# Altium footprint library Shelestov_Connectors.PcbLib: 27 footprints (part 1 of 2)
Each footprint in its own frame and in the unit in brackets; x right, y up, seen from the top. Pads: shape width x height; smd on the part's side, far side on the other; paste and mask are expansions set on the pad; w line width, h text height; cw(c..) or ccw(c..) is an arc to the next point about the centre after c.
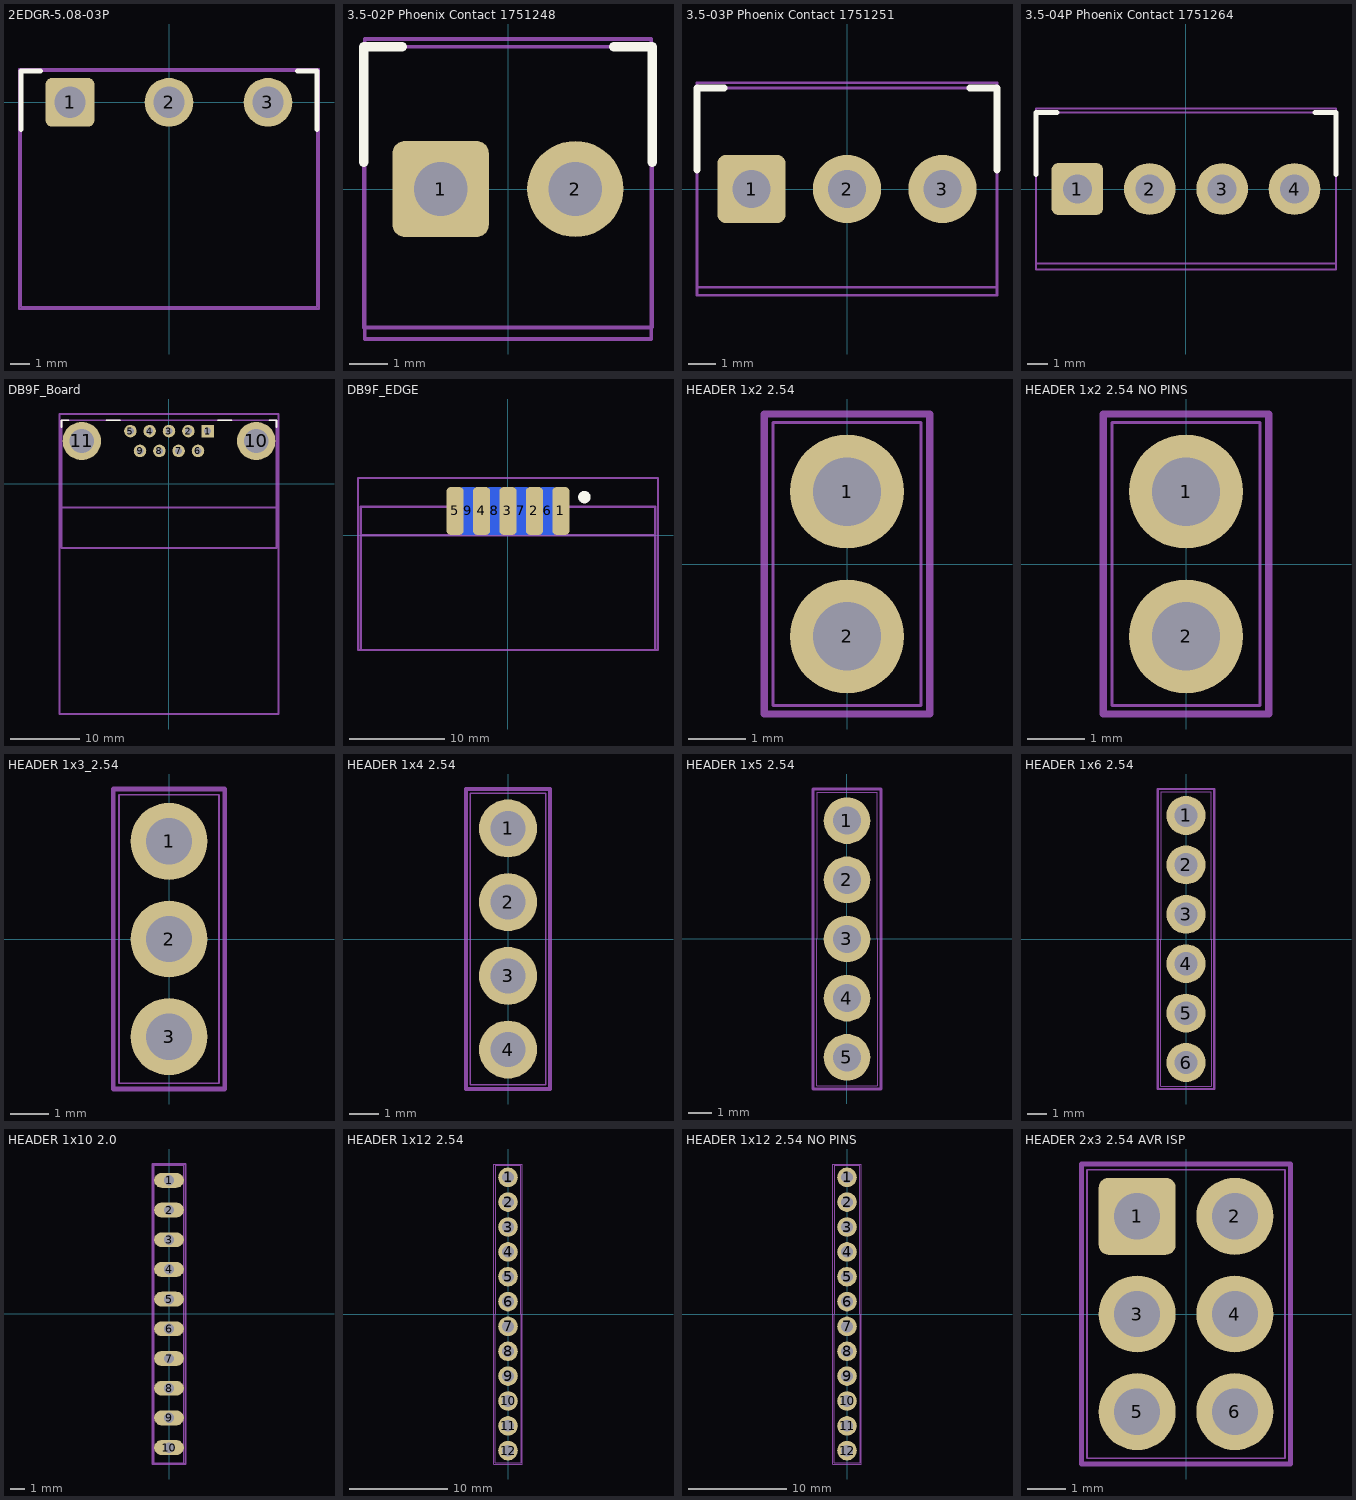
[diagram p0: the footprints below, top view; thin cyan lines are the x and y axes]

## 2EDGR-5.08-03P [mm]
height 8.3
pads (3):
  rrect25% 2.5x2.5 hole 1.6: 1(-5.08,0)
  round 2.5 hole 1.6: 2(0,0) 3(5.08,0)
Top Overlay:
  lines w0.254: -7.6,-1.4 -7.6,1.6 -6.6,1.6 ; 6.6,1.6 7.6,1.6 7.6,-1.4
Top Assembly:
  lines w0.1: -7.6,-10.5 -7.6,1.6 7.6,1.6 ; -7.6,-10.5 7.6,-10.5 ; 7.6,-10.5 7.6,1.6
  text ".Designator" at -6.75,-5.178 h3
Top Courtyard:
  lines w0.1: -7.7,-10.6 -7.7,1.7 7.7,1.7 7.7,-10.6 -7.7,-10.6
3D body "2EDGR-5_08-03P.step": height 8.3, standoff -3.9, extent -7.62,-10.5 7.62,1.6

## 3.5-02P Phoenix Contact 1751248 [mm]
height 8.5
pads (2):
  rrect25% 2.5x2.5 hole 1.4: 1(-1.75,0)
  round 2.5 hole 1.4: 2(1.75,0)
Top Overlay:
  lines w0.254: -3.75,0.7 -3.75,3.7 -2.75,3.7 ; 2.75,3.7 3.75,3.7 3.75,0.7
Top Assembly:
  lines w0.1: -3.75,-3.6 -3.75,3.7 3.74,3.7 3.74,-3.595 3.735,-3.6 -3.75,-3.6
  text ".Designator" at -4.5,2.048 h2
Top Courtyard:
  lines w0.1: -3.725,-3.9 -3.725,3.9 3.725,3.9 3.725,-3.9 -3.725,-3.9
3D body "70054346.stp": height 8.5, standoff -3.5, extent -3.75,-3.6 3.75,3.7

## 3.5-03P Phoenix Contact 1751251 [mm]
height 8.5
pads (3):
  rrect25% 2.5x2.5 hole 1.4: 1(-3.5,0)
  round 2.5 hole 1.4: 2(0,0) 3(3.5,0)
Top Overlay:
  lines w0.254: -5.5,0.7 -5.5,3.7 -4.5,3.7 ; 4.5,3.7 5.5,3.7 5.5,0.7
Top Assembly:
  lines w0.1: -5.5,-3.6 -5.5,3.7 5.5,3.7 5.5,-3.6 -5.5,-3.6
  text ".Designator" at -4.5,2.048 h2
Top Courtyard:
  lines w0.1: -5.5,-3.9 -5.5,3.9 5.5,3.9 5.5,-3.9 -5.5,-3.9
3D body "70054347.stp": height 8.6, standoff -3.4, extent -5.5,-3.6 5.5,3.7

## 3.5-04P Phoenix Contact 1751264 [mm]
height 8.5
pads (4):
  rrect25% 2.5x2.5 hole 1.4: 1(-5.25,0)
  round 2.5 hole 1.4: 2(-1.75,0) 3(1.75,0) 4(5.25,0)
Top Overlay:
  lines w0.254: -7.25,0.7 -7.25,3.7 -6.25,3.7 ; 6.25,3.7 7.25,3.7 7.25,0.7
Top Assembly:
  lines w0.1: 7.254,-3.643 7.254,3.657 ; 7.254,-3.6 -7.25,-3.6 -7.25,3.7 7.254,3.7
  text ".Designator" at -4.5,2.048 h2
Top Courtyard:
  lines w0.1: -7.25,-3.9 -7.25,3.9 7.25,3.9 7.25,-3.9 -7.25,-3.9
3D body "70054348.stp": height 8.6, standoff -3.4, extent -7.25,-3.6 7.25,3.7

## DB9F_Board [mm]
pads (11):
  rect 1.8x1.8 hole 1: 1(5.54,7.55)
  round 1.8 hole 1: 2(2.77,7.55) 3(0,7.55) 4(-2.77,7.55) 5(-5.54,7.55) 6(4.155,4.71) 7(1.385,4.71) 8(-1.385,4.71) 9(-4.155,4.71)
  round 5.5 hole 3.5: 10(12.5,6.13) 11(-12.5,6.13)
Top Overlay:
  lines w0.254: -15.4,8.1 -15.4,9.1 -14.4,9.1 ; -9,9.1 -7,9.1 ; 7,9.1 9,9.1 ; 14.4,9.1 15.4,9.1 15.4,8.1
Top Assembly:
  lines w0.254: -15.4,-3.39 15.4,-3.39 ; -15.4,-9.2 -15.4,9.1 15.4,9.1 15.4,-9.2 -15.4,-9.2
  text ".Designator" at -13.513,-1.358 h6
Top Courtyard:
  lines w0.254: -15.7,-33 -15.7,10 15.7,10 15.7,-33 -15.7,-33
3D body "DB9F-Board-Usa.step": height 12.77, standoff -4.1, extent -15.405,-9.2 15.405,9.1

## DB9F_EDGE [mm]
pads (9):
  rrect50% 1.8x5 smd: 1(5.54,2.55) 2(2.77,2.55) 3(0,2.55) 4(-2.77,2.55) 5(-5.54,2.55)
  rrect50% 1.8x5 smd far side: 6(4.155,2.55) 7(1.385,2.55) 8(-1.385,2.55) 9(-4.155,2.55)
Top Overlay:
  circle w0.7: c8,4 r0.3
Top Assembly:
  lines w0.254: -15.4,0 15.4,0 ; -15.4,-12 15.4,-12 15.4,3 -15.4,3 -15.4,-12
  text ".Designator" at -13.513,-4.358 h6
Top Courtyard:
  lines w0.254: -15.7,-12 15.7,-12 15.7,6 -15.7,6 -15.7,-12
3D body "DB9F-EDGE.step": height 5.55, standoff -6.95, extent -15.4,-12.1 15.4,3

## HEADER 1x2 2.54 [mm]
pads (2):
  round 2 hole 1.2: 1(0,1.27) 2(0,-1.27)
Top Assembly:
  lines w0.05: -1.3,-2.48 0,-2.48 1.3,-2.48 1.3,0 1.3,2.48 0,2.48 -1.3,2.48 -1.3,0 -1.3,-2.48
  text ".Designator" at -0.565,5.625 h2.5
Top Courtyard:
  lines w0.127: -1.45,-2.63 -1.45,0 -1.45,2.63 0,2.63 1.45,2.63 1.45,0 1.45,-2.63 0,-2.63 -1.45,-2.63
3D body: height 2.5, standoff 0.2, extent -1.2,-0.07 1.2,0.07
3D body: height 11.8, standoff -2.9, extent -0.4,0.87 0.4,1.67
3D body: height 11.8, standoff -2.9, extent -0.4,-1.67 0.4,-0.87
3D body: height 2.65, standoff 0.05, extent -1.3,0.07 1.3,2.47
3D body: height 2.65, standoff 0.05, extent -1.3,-2.47 1.3,-0.07

## HEADER 1x2 2.54 NO PINS [mm]
pads (2):
  round 2 hole 1.2: 1(0,1.27) 2(0,-1.27)
Top Assembly:
  lines w0.05: -1.3,-2.48 -1.3,0 -1.3,2.48 0,2.48 1.3,2.48 1.3,0 1.3,-2.48 0,-2.48 -1.3,-2.48
  text ".Designator" at -0.565,5.625 h2.5
Top Courtyard:
  lines w0.127: -1.45,-2.63 0,-2.63 1.45,-2.63 1.45,0 1.45,2.63 0,2.63 -1.45,2.63 -1.45,0 -1.45,-2.63

## HEADER 1x3_2.54 [mm]
pads (3):
  round 2 hole 1.2: 1(0,2.54) 2(0,0) 3(0,-2.54)
Top Assembly:
  lines w0.05: -1.3,-3.75 0,-3.75 1.3,-3.75 1.3,0 1.3,3.75 0,3.75 -1.3,3.75 -1.3,0 -1.3,-3.75
  text ".Designator" at -0.565,5.625 h2.5
Top Courtyard:
  lines w0.127: -1.45,-3.9 0,-3.9 1.45,-3.9 1.45,0 1.45,3.9 0,3.9 -1.45,3.9 -1.45,0 -1.45,-3.9
3D body: height 11.8, standoff -2.9, extent -0.4,-2.94 0.4,-2.14
3D body: height 11.8, standoff -2.9, extent -0.4,-0.4 0.4,0.4
3D body: height 11.8, standoff -2.9, extent -0.4,2.14 0.4,2.94
3D body: height 2.65, standoff 0.05, extent -1.3,-3.74 1.3,-1.34
3D body: height 2.65, standoff 0.05, extent -1.3,-1.2 1.3,1.2
3D body: height 2.65, standoff 0.05, extent -1.3,1.34 1.3,3.74
3D body: height 2.5, standoff 0.2, extent -1.2,-1.34 1.2,-1.2
3D body: height 2.5, standoff 0.2, extent -1.2,1.2 1.2,1.34

## HEADER 1x4 2.54 [mm]
pads (4):
  round 2 hole 1.2: 1(0,3.81) 2(0,1.27) 3(0,-1.27) 4(0,-3.81)
Top Assembly:
  lines w0.05: -1.3,-5.02 0,-5.02 1.3,-5.02 1.3,0 1.3,5.02 0,5.02 -1.3,5.02 -1.3,0 -1.3,-5.02
  text ".Designator" at -0.565,5.625 h2.5
Top Courtyard:
  lines w0.127: -1.45,-5.17 -1.45,0 -1.45,5.17 0,5.17 1.45,5.17 1.45,0 1.45,-5.17 0,-5.17 -1.45,-5.17
3D body: height 2.65, standoff 0.05, extent -1.3,2.61 1.3,5.01
3D body: height 2.65, standoff 0.05, extent -1.3,0.07 1.3,2.47
3D body: height 2.65, standoff 0.05, extent -1.3,-2.47 1.3,-0.07
3D body: height 2.65, standoff 0.05, extent -1.3,-5.01 1.3,-2.61
3D body: height 11.8, standoff -2.9, extent -0.4,-4.21 0.4,-3.41
3D body: height 11.8, standoff -2.9, extent -0.4,-1.67 0.4,-0.87
3D body: height 11.8, standoff -2.9, extent -0.4,0.87 0.4,1.67
3D body: height 11.8, standoff -2.9, extent -0.4,3.41 0.4,4.21
3D body: height 2.5, standoff 0.2, extent -1.2,2.47 1.2,2.61
3D body: height 2.5, standoff 0.2, extent -1.2,-0.07 1.2,0.07
3D body: height 2.5, standoff 0.2, extent -1.2,-2.61 1.2,-2.47

## HEADER 1x5 2.54 [mm]
pads (5):
  round 2 hole 1.2: 1(0,5.08) 2(0,2.54) 3(0,0) 4(0,-2.54) 5(0,-5.08)
Top Assembly:
  lines w0.05: -1.3,-6.29 0,-6.29 1.3,-6.29 1.3,0 1.3,6.29 0,6.29 -1.3,6.29 -1.3,0 -1.3,-6.29
  text ".Designator" at -0.565,5.625 h2.5
Top Courtyard:
  lines w0.127: -1.45,-6.44 0,-6.44 1.45,-6.44 1.45,0 1.45,6.44 0,6.44 -1.45,6.44 -1.45,0 -1.45,-6.44
3D body: height 11.8, standoff -2.9, extent -0.4,4.68 0.4,5.48
3D body: height 11.8, standoff -2.9, extent -0.4,2.14 0.4,2.94
3D body: height 11.8, standoff -2.9, extent -0.4,-0.4 0.4,0.4
3D body: height 11.8, standoff -2.9, extent -0.4,-2.94 0.4,-2.14
3D body: height 11.8, standoff -2.9, extent -0.4,-5.48 0.4,-4.68
3D body: height 2.65, standoff 0.05, extent -1.3,-1.2 1.3,1.2
3D body: height 2.65, standoff 0.05, extent -1.3,1.34 1.3,3.74
3D body: height 2.65, standoff 0.05, extent -1.3,3.88 1.3,6.28
3D body: height 2.5, standoff 0.2, extent -1.2,1.2 1.2,1.34
3D body: height 2.5, standoff 0.2, extent -1.2,3.74 1.2,3.88
3D body: height 2.65, standoff 0.05, extent -1.3,-6.28 1.3,-3.88
3D body: height 2.65, standoff 0.05, extent -1.3,-3.74 1.3,-1.34
3D body: height 2.5, standoff 0.2, extent -1.2,-3.88 1.2,-3.74
3D body: height 2.5, standoff 0.2, extent -1.2,-1.34 1.2,-1.2

## HEADER 1x6 2.54 [mm]
pads (6):
  round 2 hole 1.2: 1(0,6.35) 2(0,3.81) 3(0,1.27) 4(0,-1.27) 5(0,-3.81) 6(0,-6.35)
Top Assembly:
  lines w0.05: -1.3,-7.56 0,-7.56 1.3,-7.56 1.3,0 1.3,7.56 0,7.56 -1.3,7.56 -1.3,0 -1.3,-7.56
  text ".Designator" at -0.565,5.625 h2.5
Top Courtyard:
  lines w0.127: -1.45,-7.71 -1.45,0 -1.45,7.71 0,7.71 1.45,7.71 1.45,0 1.45,-7.71 0,-7.71 -1.45,-7.71
3D body: height 2.5, standoff 0.2, extent -1.2,-0.07 1.2,0.07
3D body: height 2.5, standoff 0.2, extent -1.2,-2.61 1.2,-2.47
3D body: height 2.5, standoff 0.2, extent -1.2,-5.15 1.2,-5.01
3D body: height 2.65, standoff 0.05, extent -1.3,-2.47 1.3,-0.07
3D body: height 2.65, standoff 0.05, extent -1.3,-5.01 1.3,-2.61
3D body: height 2.65, standoff 0.05, extent -1.3,-7.55 1.3,-5.15
3D body: height 2.5, standoff 0.2, extent -1.2,5.01 1.2,5.15
3D body: height 2.5, standoff 0.2, extent -1.2,2.47 1.2,2.61
3D body: height 2.65, standoff 0.05, extent -1.3,5.15 1.3,7.55
3D body: height 2.65, standoff 0.05, extent -1.3,2.61 1.3,5.01
3D body: height 2.65, standoff 0.05, extent -1.3,0.07 1.3,2.47
3D body: height 11.8, standoff -2.9, extent -0.4,-6.75 0.4,-5.95
3D body: height 11.8, standoff -2.9, extent -0.4,-4.21 0.4,-3.41
3D body: height 11.8, standoff -2.9, extent -0.4,-1.67 0.4,-0.87
3D body: height 11.8, standoff -2.9, extent -0.4,0.87 0.4,1.67
3D body: height 11.8, standoff -2.9, extent -0.4,3.41 0.4,4.21
3D body: height 11.8, standoff -2.9, extent -0.4,5.95 0.4,6.75

## HEADER 1x10 2.0 [mm]
pads (10):
  oval 2x1 hole 0.7: 1(0,9) 2(0,7) 3(0,5) 4(0,3) 5(0,1) 6(0,-1) 7(0,-3) 8(0,-5) 9(0,-7) 10(0,-9)
Top Assembly:
  lines w0.05: -1.005,-0.005 -1.005,-10.005 -0.005,-10.005 ; -1,0 -1,10 0,10 1,10 1,0 ; 0.005,-10.005 1.005,-10.005 1.005,-0.005
  text ".Designator" at -0.565,5.625 h2.5
Top Courtyard:
  lines w0.127: -1.105,-0.005 -1.105,-10.105 -0.005,-10.105 ; -1.1,0 -1.1,10.1 0,10.1 1.1,10.1 1.1,0 ; 0.005,-10.105 1.105,-10.105 1.105,-0.005

## HEADER 1x12 2.54 [mm]
pads (12):
  round 2 hole 1.2: 1(0,13.97) 2(0,11.43) 3(0,8.89) 4(0,6.35) 5(0,3.81) 6(0,1.27) 7(0,-1.27) 8(0,-3.81) 9(0,-6.35) 10(0,-8.89) 11(0,-11.43) 12(0,-13.97)
Top Assembly:
  lines w0.05: -1.3,-15.18 0,-15.18 1.3,-15.18 1.3,0 1.3,15.18 0,15.18 -1.3,15.18 -1.3,0 -1.3,-15.18
  text ".Designator" at -0.565,5.625 h2.5
Top Courtyard:
  lines w0.127: -1.45,-15.33 -1.45,0 -1.45,15.33 0,15.33 1.45,15.33 1.45,0 1.45,-15.33 0,-15.33 -1.45,-15.33
3D body: height 2.5, standoff 0.2, extent -1.2,-0.07 1.2,0.07
3D body: height 2.5, standoff 0.2, extent -1.2,-2.61 1.2,-2.47
3D body: height 2.5, standoff 0.2, extent -1.2,-5.15 1.2,-5.01
3D body: height 2.65, standoff 0.05, extent -1.3,-2.47 1.3,-0.07
3D body: height 2.65, standoff 0.05, extent -1.3,-5.01 1.3,-2.61
3D body: height 2.65, standoff 0.05, extent -1.3,-7.55 1.3,-5.15
3D body: height 2.5, standoff 0.2, extent -1.2,5.01 1.2,5.15
3D body: height 2.5, standoff 0.2, extent -1.2,2.47 1.2,2.61
3D body: height 2.65, standoff 0.05, extent -1.3,5.15 1.3,7.55
3D body: height 2.65, standoff 0.05, extent -1.3,2.61 1.3,5.01
3D body: height 2.65, standoff 0.05, extent -1.3,0.07 1.3,2.47
3D body: height 11.8, standoff -2.9, extent -0.4,-6.75 0.4,-5.95
3D body: height 11.8, standoff -2.9, extent -0.4,-4.21 0.4,-3.41
3D body: height 11.8, standoff -2.9, extent -0.4,-1.67 0.4,-0.87
3D body: height 11.8, standoff -2.9, extent -0.4,0.87 0.4,1.67
3D body: height 11.8, standoff -2.9, extent -0.4,3.41 0.4,4.21
3D body: height 11.8, standoff -2.9, extent -0.4,5.95 0.4,6.75
3D body: height 2.5, standoff 0.2, extent -1.2,7.55 1.2,7.69
3D body: height 2.5, standoff 0.2, extent -1.2,12.63 1.2,12.77
3D body: height 2.5, standoff 0.2, extent -1.2,10.09 1.2,10.23
3D body: height 2.65, standoff 0.05, extent -1.3,12.77 1.3,15.17
3D body: height 2.65, standoff 0.05, extent -1.3,10.23 1.3,12.63
3D body: height 2.65, standoff 0.05, extent -1.3,7.69 1.3,10.09
3D body: height 2.5, standoff 0.2, extent -1.2,-7.69 1.2,-7.55
3D body: height 2.5, standoff 0.2, extent -1.2,-12.77 1.2,-12.63
3D body: height 2.5, standoff 0.2, extent -1.2,-10.23 1.2,-10.09
3D body: height 2.65, standoff 0.05, extent -1.3,-15.17 1.3,-12.77
3D body: height 2.65, standoff 0.05, extent -1.3,-12.63 1.3,-10.23
3D body: height 2.65, standoff 0.05, extent -1.3,-10.09 1.3,-7.69
3D body: height 11.8, standoff -2.9, extent -0.4,-9.29 0.4,-8.49
3D body: height 11.8, standoff -2.9, extent -0.4,-11.83 0.4,-11.03
3D body: height 11.8, standoff -2.9, extent -0.4,-14.37 0.4,-13.57
3D body: height 11.8, standoff -2.9, extent -0.4,8.49 0.4,9.29
3D body: height 11.8, standoff -2.9, extent -0.4,11.03 0.4,11.83
3D body: height 11.8, standoff -2.9, extent -0.4,13.57 0.4,14.37

## HEADER 1x12 2.54 NO PINS [mm]
pads (12):
  round 2 hole 1.2: 1(0,13.97) 2(0,11.43) 3(0,8.89) 4(0,6.35) 5(0,3.81) 6(0,1.27) 7(0,-1.27) 8(0,-3.81) 9(0,-6.35) 10(0,-8.89) 11(0,-11.43) 12(0,-13.97)
Top Assembly:
  lines w0.05: -1.3,-15.18 0,-15.18 1.3,-15.18 1.3,0 1.3,15.18 0,15.18 -1.3,15.18 -1.3,0 -1.3,-15.18
  text ".Designator" at -0.565,5.625 h2.5
Top Courtyard:
  lines w0.127: -1.45,-15.33 -1.45,0 -1.45,15.33 0,15.33 1.45,15.33 1.45,0 1.45,-15.33 0,-15.33 -1.45,-15.33

## HEADER 2x3 2.54 AVR ISP [mm]
pads (6):
  rrect25% 2x2 hole 1.2: 1(-1.27,2.54)
  round 2 hole 1.2: 2(1.27,2.54) 3(-1.27,0) 4(1.27,0) 5(-1.27,-2.54) 6(1.27,-2.54)
Top Assembly:
  lines w0.05: -2.57,-3.75 2.57,-3.75 2.57,3.75 -2.57,3.75 -2.57,-3.75
  text ".Designator" at -0.5,7.498 h1.5
Top Courtyard:
  lines w0.127: -2.72,-3.9 2.72,-3.9 2.72,3.9 -2.72,3.9 -2.72,-3.9
3D body: height 2.5, standoff 0.2, extent -2.47,-1.34 0,-1.2
3D body: height 2.5, standoff 0.2, extent -2.47,1.2 0,1.34
3D body: height 11.8, standoff -2.9, extent -1.67,2.14 -0.87,2.94
3D body: height 11.8, standoff -2.9, extent -1.67,-0.4 -0.87,0.4
3D body: height 11.8, standoff -2.9, extent -1.67,-2.94 -0.87,-2.14
3D body: height 11.8, standoff -2.9, extent 0.87,-2.94 1.67,-2.14
3D body: height 11.8, standoff -2.9, extent 0.87,-0.4 1.67,0.4
3D body: height 11.8, standoff -2.9, extent 0.87,2.14 1.67,2.94
3D body: height 2.5, standoff 0.2, extent 0,-1.34 2.47,-1.2
3D body: height 2.5, standoff 0.2, extent 0,1.2 2.47,1.34
3D body: height 2.65, standoff 0.05, extent 0,1.34 2.57,3.74
3D body: height 2.65, standoff 0.05, extent 0,-3.74 2.57,-1.34
3D body: height 2.65, standoff 0.05, extent -2.57,-3.74 0,-1.34
3D body: height 2.65, standoff 0.05, extent -2.57,1.34 0,3.74
3D body: height 2.65, standoff 0.05, extent 0,-1.2 2.57,1.2
3D body: height 2.65, standoff 0.05, extent -2.57,-1.2 0,1.2